# Altium footprint library ConnectMedical.PcbLib: 44 footprints (part 2 of 3)
Each footprint in its own frame and in the unit in brackets; x right, y up, seen from the top. Pads: shape width x height; smd on the part's side, far side on the other; paste and mask are expansions set on the pad; w line width, h text height; cw(c..) or ccw(c..) is an arc to the next point about the centre after c.
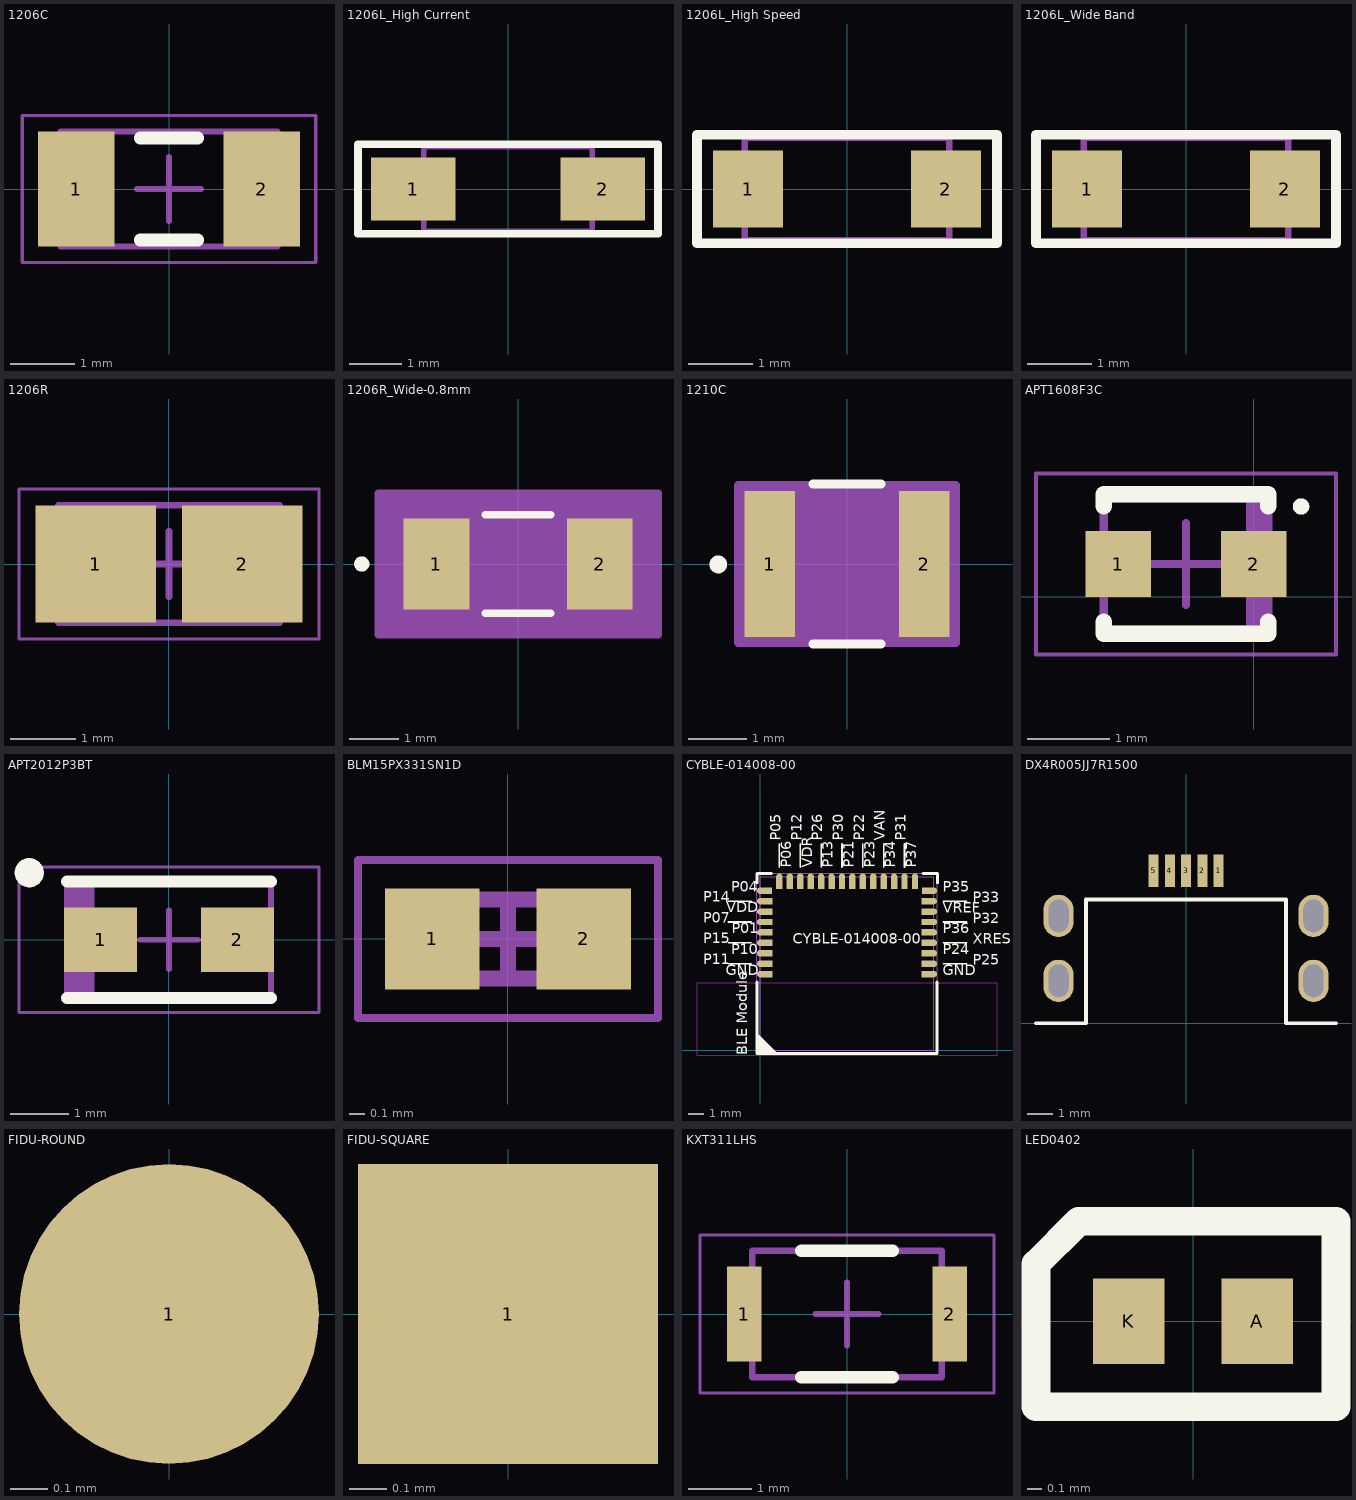
[diagram p1: the footprints below, top view; thin cyan lines are the x and y axes]

## 1206C [mm] "Chip Capacitor, 2-Leads, Body 3.20x1.60mm, IPC Medium Density"
height 1.2
pads (2):
  rect 1.2x1.8 smd: 1(-1.45,0) 2(1.45,0)
Top Overlay:
  lines w0.2: -0.45,-0.8 0.45,-0.8 ; -0.45,0.8 0.45,0.8
Mechanical 13:
  lines w0.1: -1.7,-0.9 1.7,-0.9 1.7,0.9 -1.7,0.9 -1.7,-0.9
Mechanical 15:
  lines w0.05: -2.3,-1.15 2.3,-1.15 2.3,1.15 -2.3,1.15 -2.3,-1.15
  lines w0.1: -0.5,0 0.5,0 ; 0,-0.5 0,0.5
3D body "C1206.step": height 1.2, standoff 0, extent -1.7,-0.9 1.7,0.9

## 1206L_High Current [mm] "SMD EMI Suppression Ferrite  Bead, body 3.2mmx1.6mm"
height 1.1
pads (2):
  rect 1.6x1.2 smd: 1(-1.8,0) 2(1.8,0)
Top Overlay:
  lines w0.15: -2.85,-0.85 -2.85,0.85 2.85,0.85 2.85,-0.85 -2.85,-0.85
Mechanical 15:
  lines w0.1: -1.6,-0.8 -1.6,0.8 1.6,0.8 1.6,-0.8 -1.6,-0.8
3D body "WE-CBF_1206_CBF.stp": height 1.13, standoff 0.03, extent -1.6,-0.8 1.6,0.8

## 1206L_High Speed [mm] "SMD EMI Suppression Ferrite  Bead, body 3.2mmx1.6mm"
height 1.1
pads (2):
  rect 1.1x1.2 smd: 1(-1.55,0) 2(1.55,0)
Top Overlay:
  lines w0.15: -2.35,-0.85 -2.35,0.85 2.35,0.85 2.35,-0.85 -2.35,-0.85
Mechanical 15:
  lines w0.1: -1.6,-0.8 -1.6,0.8 1.6,0.8 1.6,-0.8 -1.6,-0.8
3D body "WE-CBF_1206_CBF.stp": height 1.13, standoff 0.03, extent -1.6,-0.8 1.6,0.8

## 1206L_Wide Band [mm] "SMD EMI Suppression Ferrite  Bead, body 3.2mmx1.6mm"
height 1.1
pads (2):
  rect 1.1x1.2 smd: 1(-1.55,0) 2(1.55,0)
Top Overlay:
  lines w0.15: -2.35,-0.85 -2.35,0.85 2.35,0.85 2.35,-0.85 -2.35,-0.85
Mechanical 15:
  lines w0.1: -1.6,-0.8 -1.6,0.8 1.6,0.8 1.6,-0.8 -1.6,-0.8
3D body "WE-CBF_1206_CBF.stp": height 1.13, standoff 0.03, extent -1.6,-0.8 1.6,0.8

## 1206R [mm] "Land pattern for 0.005R 1206"
height 0.75
pads (2):
  rect 1.85x1.8 smd: 1(-1.125,0) 2(1.125,0)
Mechanical 13:
  lines w0.1: -1.7,-0.9 -1.7,0.9 1.7,0.9 1.7,-0.9 -1.7,-0.9
Mechanical 15:
  lines w0.05: -2.3,-1.15 -2.3,1.15 2.3,1.15 2.3,-1.15 -2.3,-1.15
  lines w0.1: -0.5,0 0.5,0 ; 0,-0.5 0,0.5
3D body: height 0.75, standoff 0, extent -0.6,-0.9 0.6,0.9
3D body: height 0.75, standoff 0, extent -1.7,-0.9 -0.6,0.9
3D body: height 0.75, standoff 0, extent 0.6,-0.9 1.7,0.9

## 1206R_Wide-0.8mm [mil] "0.126\" L x 0.063\" W x 0.031\"H (3.20mm x 1.60mm x 0.80mm)"
pads (2):
  rect 52x72 smd: 1(-64.5,0) 2(64.5,0)
Top Overlay:
  circle w6: c-123.5,0 r3
  lines w6: -25.75,-39 25.75,-39 ; -25.75,39 25.75,39
Mechanical 13:
  circle w0: c-59.5,0 r3
Mechanical 15:
  region: 110.5,-56 -110.5,-56 -110.5,56 110.5,56
  lines w6: -110.5,-56 -110.5,56 110.5,56 110.5,-56 -110.5,-56
3D body "STA_HVCB1206-M.stp": height 30, standoff 0, extent -68.5,-34 68.5,34

## 1210C [mil]
pads (2):
  rect 34x98 smd: 1(-52,0) 2(52,0)
Top Overlay:
  circle w6: c-86.65,-0.3 r3
  lines w6: -22.89,-54 22.89,-54 ; -22.89,54 22.89,54
Mechanical 13:
  circle w0: c-47,0 r3
Mechanical 15:
  region: 73,-53 -73,-53 -73,53 73,53
  lines w6: -73,-53 73,-53 73,53 -73,53 -73,-53
3D body "G-32-L.stp": height 110, standoff 0, extent -63,-49 63,49

## APT1608F3C [mm] "EMITTER IR 940NM 50MA 603"
height 0.75
pads (2):
  rect 0.8x0.8 smd: 1(-1.65,0.4) 2(0,0.4)
Top Overlay:
  circle w0.1: c0.575,1.1 r0.05
  lines w0.2: -1.825,-0.3 -1.825,-0.45 0.175,-0.45 0.175,-0.3 ; -1.825,1.1 -1.825,1.25 0.175,1.25 0.175,1.1
Mechanical 13:
  rectangle: -0.094,-0.4 0.175,1.2
  lines w0.1: -1.825,-0.4 0.175,-0.4 0.175,1.2 -1.825,1.2 -1.825,-0.4
Mechanical 15:
  lines w0.05: -2.65,-0.7 1,-0.7 1,1.5 -2.65,1.5 -2.65,-0.7
  lines w0.1: -1.325,0.4 -0.325,0.4 ; -0.825,-0.1 -0.825,0.9
3D body "APT1608F3C_3D.step": height 0.75, standoff 0, extent -2.045,-0.4 0.395,1.2

## APT2012P3BT [mm] "PHOTOTRANSISTOR IR NPN 940NM SMD"
height 0.75
pads (2):
  rect 1.25x1.1 smd: 1(-1.175,0) 2(1.175,0)
Top Overlay:
  circle w0.25: c-2.4,1.15 r0.125
  lines w0.2: -1.75,-1 1.75,-1 ; -1.75,1 1.75,1
Mechanical 13:
  rectangle: -1.75,-1 -1.279,1
  lines w0.1: -1.75,-1 1.75,-1 1.75,1 -1.75,1 -1.75,-1
Mechanical 15:
  lines w0.05: -2.575,-1.25 2.575,-1.25 2.575,1.25 -2.575,1.25 -2.575,-1.25
  lines w0.1: -0.5,0 0.5,0 ; 0,-0.5 0,0.5
3D body "APT2012P3BT_.step": height 0.75, standoff 0, extent -1.97,-1 1.97,1

## BLM15PX331SN1D [mm] "FERRITE BEAD 330 OHM 0402 1LN"
height 0.5
pads (2):
  rect 0.6x0.64 smd: 1(-0.48,0) 2(0.48,0)
Mechanical 13:
  lines w0.1: -0.5,-0.25 0.5,-0.25 0.5,0.25 -0.5,0.25 -0.5,-0.25
Mechanical 15:
  lines w0.05: -0.95,-0.5 0.95,-0.5 0.95,0.5 -0.95,0.5 -0.95,-0.5
  lines w0.1: -0.25,0 0.25,0 ; 0,-0.25 0,0.25
3D body "BLM15PX331SN1D.step": height 0.5, standoff 0, extent -0.5,-0.25 0.5,0.25

## CYBLE-014008-00 [mil]
pads (64):
  round 16 smd mask+2: 1(0,190) 2(0,216) 3(0,242) 4(0,268) 5(0,294) 6(0,320) 7(0,346) 8(0,372) 9(0,398) 10(48,433) 11(74,433) 12(100,433) 13(126,433) 14(152,433) 15(178,433) 16(204,433) 17(230,433) 18(256,433) 19(282,433) 20(308,433) 21(334,433) 22(360,433) 23(386,433) 24(433,398) 25(433,372) 26(433,346) 27(433,320) 28(433,294) 29(433,268) 30(433,242) 31(433,216) 32(433,190)
  rect 31x16 smd mask+2: 1(15.5,190) 2(15.5,216) 3(15.5,242) 4(15.5,268) 5(15.5,294) 6(15.5,320) 7(15.5,346) 8(15.5,372) 25(417.5,372) 26(417.5,346) 27(417.5,320) 28(417.5,294) 29(417.5,268) 30(417.5,242) 31(417.5,216) 32(417.5,190)
  rect 29x16 smd mask+2: 9(14.5,398) 24(418.5,398)
  rect 16x31 smd mask+2: 10(48,417.5) 11(74,417.5) 12(100,417.5) 13(126,417.5) 14(152,417.5) 15(178,417.5) 16(204,417.5) 17(230,417.5) 18(256,417.5) 19(282,417.5) 20(308,417.5) 21(334,417.5) 22(360,417.5) 23(386,417.5)
Top Overlay:
  region: -8,43.4 -8,-8 43.4,-8
  lines w4: -80,216 -22,216 ; -80,268 -22,268 ; -80,320 -22,320 ; -80,372 -22,372 ; 48,457 48,515 ; 100,457 100,515 ; 152,457 152,515 ; 204,457 204,515 ; 256,457 256,515 ; 308,457 308,515 ; 360,457 360,515 ; 457,216 515,216 ; 457,268 515,268 ; 457,320 515,320 ; 457,372 515,372
  lines w7: -8,170 -8,-8 441,-8 441,170 ; -8,418 -8,441 28,441 ; 406,441 442,441 442,418
  text "BLE Module" at -23.62,-11.81 h45
  text "CYBLE-014008-00" at 81,257 h45
  text "P31" at 372,522 h45
  text "VAN" at 320,522 h45
  text "P22" at 268,522 h45
  text "P30" at 216,522 h45
  text "P26" at 164,522 h45
  text "P12" at 112,522 h45
  text "P05" at 60,522 h45
  text "P37" at 398,455 h45
  text "P34" at 346,455 h45
  text "P23" at 294,455 h45
  text "P21" at 242,455 h45
  text "P13" at 190,455 h45
  text "VDR" at 138,455 h45
  text "P06" at 86,455 h45
  text "P15" at -142,257.7 h45
  text "P07" at -142,309.7 h45
  text "P14" at -142,361.7 h45
  text "P10" at -72,231 h45
  text "P01" at -71,283 h45
  text "VDD" at -84,335 h45
  text "P04" at -72,387 h45
  text "P11" at -142,205.7 h45
  text "GND" at -86,178 h45
  text "GND" at 455,178.7 h45
  text "P35" at 455,386.7 h45
  text "VREF" at 455,334.7 h45
  text "P36" at 455,282.7 h45
  text "P24" at 455,230.7 h45
  text "XRES" at 530,256.7 h45
  text "P32" at 530,308.7 h45
  text "P33" at 530,360.7 h45
  text "P25" at 530,204.7 h45
Keep-Out Layer:
  lines w1: -157.48,-11.81 590.55,-11.81 590.55,168.31 400.59,168.31 26.57,168.31 -157.48,168.31 -157.48,-11.81
  text "Antenna Keep Out Area" at 19,69 h50
Mechanical 15:
  lines w1: -8,-8 -8,441 441,441 441,-8 -8,-8 ; 0,0 0,433.07 433.07,433.07 433.07,0 0,0
3D body "CYBLE-014008-00_AP214.STEP": height 71.71, standoff 0.85, extent 1.35,0.01 434.42,433.08

## DX4R005JJ7R1500 [mm] "USB Connector"
pads (10):
  rect 0.4x1.3 smd: 1(1.3,6.1) 2(0.65,6.1) 3(0,6.1) 4(-0.65,6.1) 5(-1.3,6.1)
  oval 1.2x1.7 hole 1.3 slot 0.8 at 0 deg: ""(-5.1,1.7) ""(-5.1,4.3) ""(-5.1,4.3) ""(5.1,1.7) ""(5.1,4.3)
Top Overlay:
  lines w0.15: -6,0 -4,0 -4,4.95 4,4.95 4,0 6,0

## FIDU-ROUND [mm]
pads (1):
  round 0.8 smd paste-2 mask+0.43: 1(0,0)

## FIDU-SQUARE [mm]
pads (1):
  rect 0.8x0.8 smd paste-2 mask+0.43: 1(0,0)

## KXT311LHS [mm] "SWITCH TACTILE SPST-NO 0.05A 12V"
height 0.6
pads (2):
  rect 0.55x1.5 smd: 1(-1.625,0) 2(1.625,0)
Top Overlay:
  lines w0.2: -0.725,-1 0.725,-1 ; -0.725,1 0.725,1
Mechanical 13:
  lines w0.1: -1.5,-1 -1.5,1 1.5,1 1.5,-1 -1.5,-1
Mechanical 15:
  lines w0.05: -2.325,-1.25 -2.325,1.25 2.325,1.25 2.325,-1.25 -2.325,-1.25
  lines w0.1: -0.5,0 0.5,0 ; 0,-0.5 0,0.5
3D body "KXT311LHS.step": height 0.6, standoff 0, extent -1.72,-1 1.72,1

## LED0402 [mm]
pads (2):
  rect 0.5x0.6 smd: A(0.45,0) K(-0.45,0)
Top Overlay:
  lines w0.2: -1.1,-0.6 -1.1,0.4 -0.8,0.7 1,0.7 1,-0.6 -1.1,-0.6
3D body "SML-P10.STEP": height 0.2, standoff 0, extent -0.5,-0.3 0.5,0.3